# Altium schematic symbol library WS2812B.SchLib: 1 symbol
Pins are listed as number, name and electrical type; pins without a type are passive.

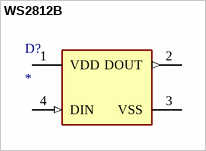
[diagram p0: symbol WS2812B]

## WS2812B
designator D?
Value: *
pins: 1 VDD (power), 2 DOUT (out), 3 VSS (power), 4 DIN (in)